# EAGLE library part XC7A50T (library ICs)
Artix-7 Field Programmable Gate Array (FPGA) IC 250 2764800 52160 484-BBGA
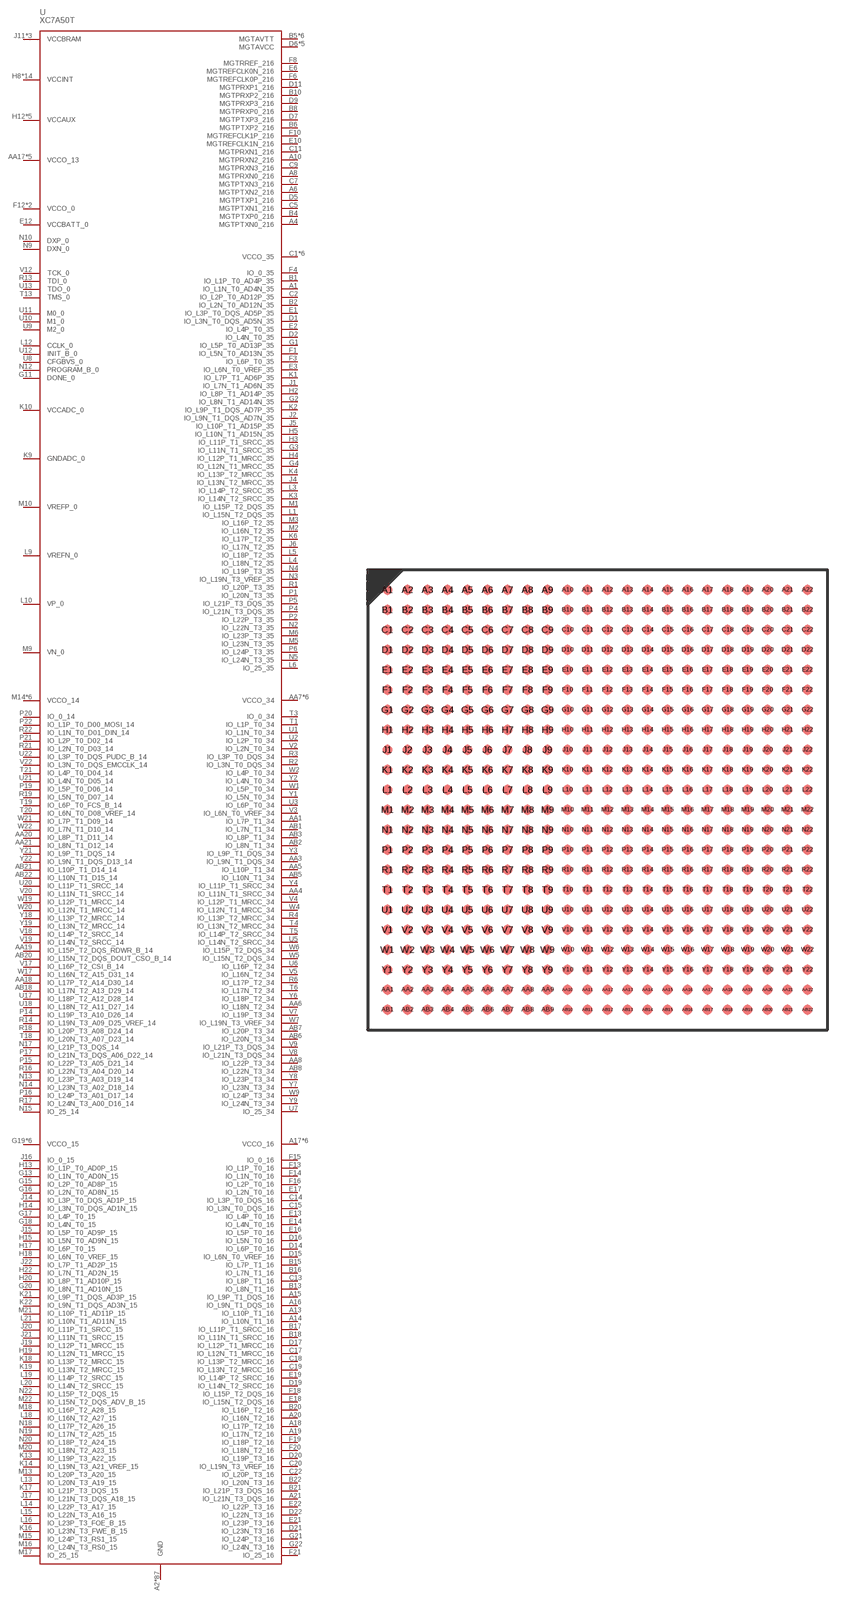
[diagram p262: symbol with the pads of FBGA484; footprint FBGA484]

Designator prefix U

## XC7A50T-2FGG484C (DIGIKEY: 122-2082-ND; HEIGHT: 2.5; PRICE_PER: 62; VALUE: Artix 7 50T -2)  [FBGA484]
A1  IO_L1N_T0_AD4N_35
A2  GND
A3  GND
A4  MGTPTXN0_216
A5  GND
A6  MGTPTXN2_216
A7  GND
A8  MGTPRXN0_216
A9  GND
A10  MGTPRXN2_216
A11  GND
A12  GND
A13  IO_L10P_T1_16
A14  IO_L10N_T1_16
A15  IO_L9P_T1_DQS_16
A16  IO_L9N_T1_DQS_16
A17  VCCO_16
A18  IO_L17P_T2_16
A19  IO_L17N_T2_16
A20  IO_L16N_T2_16
A21  IO_L21N_T3_DQS_16
A22  GND
AA1  IO_L7P_T1_34
AA2  GND
AA3  IO_L9N_T1_DQS_34
AA4  IO_L11N_T1_SRCC_34
AA5  IO_L10P_T1_34
AA6  IO_L18N_T2_34
AA7  VCCO_34
AA8  IO_L22P_T3_34
AA12  GND
AA17  VCCO_13
AA18  IO_L17P_T2_A14_D30_14
AA19  IO_L15P_T2_DQS_RDWR_B_14
AA20  IO_L8P_T1_D11_14
AA21  IO_L8N_T1_D12_14
AA22  GND
AB1  IO_L7N_T1_34
AB2  IO_L8N_T1_34
AB3  IO_L8P_T1_34
AB4  VCCO_34
AB5  IO_L10N_T1_34
AB6  IO_L20N_T3_34
AB7  IO_L20P_T3_34
AB8  IO_L22N_T3_34
AB9  GND
AB14  VCCO_13
AB18  IO_L17N_T2_A13_D29_14
AB19  GND
AB20  IO_L15N_T2_DQS_DOUT_CSO_B_14
AB21  IO_L10P_T1_D14_14
AB22  IO_L10N_T1_D15_14
B1  IO_L1P_T0_AD4P_35
B2  IO_L2N_T0_AD12N_35
B3  GND
B4  MGTPTXP0_216
B5  MGTAVTT
B6  MGTPTXP2_216
B7  MGTAVTT
B8  MGTPRXP0_216
B9  MGTAVTT
B10  MGTPRXP2_216
B11  MGTAVTT
B12  GND
B13  IO_L8N_T1_16
B14  VCCO_16
B15  IO_L7P_T1_16
B16  IO_L7N_T1_16
B17  IO_L11P_T1_SRCC_16
B18  IO_L11N_T1_SRCC_16
B19  GND
B20  IO_L16P_T2_16
B21  IO_L21P_T3_DQS_16
B22  IO_L20N_T3_16
C1  VCCO_35
C2  IO_L2P_T0_AD12P_35
C3  GND
C4  MGTAVTT
C5  MGTPTXN1_216
C6  GND
C7  MGTPTXN3_216
C8  MGTAVTT
C9  MGTPRXN3_216
C10  GND
C11  MGTPRXN1_216
C12  GND
C13  IO_L8P_T1_16
C14  IO_L3P_T0_DQS_16
C15  IO_L3N_T0_DQS_16
C16  GND
C17  IO_L12N_T1_MRCC_16
C18  IO_L13P_T2_MRCC_16
C19  IO_L13N_T2_MRCC_16
C20  IO_L19N_T3_VREF_16
C21  VCCO_16
C22  IO_L20P_T3_16
D1  IO_L3N_T0_DQS_AD5N_35
D2  IO_L4N_T0_35
D3  GND
D4  GND
D5  MGTPTXP1_216
D6  MGTAVCC
D7  MGTPTXP3_216
D8  GND
D9  MGTPRXP3_216
D10  MGTAVCC
D11  MGTPRXP1_216
D12  GND
D13  GND
D14  IO_L6P_T0_16
D15  IO_L6N_T0_VREF_16
D16  IO_L5N_T0_16
D17  IO_L12P_T1_MRCC_16
D18  VCCO_16
D19  IO_L14N_T2_SRCC_16
D20  IO_L19P_T3_16
D21  IO_L23N_T3_16
D22  IO_L22N_T3_16
E1  IO_L3P_T0_DQS_AD5P_35
E2  IO_L4P_T0_35
E3  IO_L6N_T0_VREF_35
E4  GND
E5  GND
E6  MGTREFCLK0N_216
E7  GND
E8  MGTAVCC
E9  GND
E10  MGTREFCLK1N_216
E11  GND
E12  VCCBATT_0
E13  IO_L4P_T0_16
E14  IO_L4N_T0_16
E15  VCCO_16
E16  IO_L5P_T0_16
E17  IO_L2N_T0_16
E18  IO_L15N_T2_DQS_16
E19  IO_L14P_T2_SRCC_16
E20  GND
E21  IO_L23P_T3_16
E22  IO_L22P_T3_16
F1  IO_L5N_T0_AD13N_35
F2  VCCO_35
F3  IO_L6P_T0_35
F4  IO_0_35
F5  GND
F6  MGTREFCLK0P_216
F7  MGTAVCC
F8  MGTRREF_216
F9  MGTAVCC
F10  MGTREFCLK1P_216
F11  GND
F12  VCCO_0
F13  IO_L1P_T0_16
F14  IO_L1N_T0_16
F15  IO_0_16
F16  IO_L2P_T0_16
F17  GND
F18  IO_L15P_T2_DQS_16
F19  IO_L18P_T2_16
F20  IO_L18N_T2_16
F21  IO_25_16
F22  VCCO_16
G1  IO_L5P_T0_AD13P_35
G2  IO_L8N_T1_AD14N_35
G3  IO_L11N_T1_SRCC_35
G4  IO_L12N_T1_MRCC_35
G5  GND
G6  GND
G7  GND
G8  GND
G9  GND
G10  GND
G11  DONE_0
G12  GND
G13  IO_L1N_T0_AD0N_15
G14  GND
G15  IO_L2P_T0_AD8P_15
G16  IO_L2N_T0_AD8N_15
G17  IO_L4P_T0_15
G18  IO_L4N_T0_15
G19  VCCO_15
G20  IO_L8N_T1_AD10N_15
G21  IO_L24P_T3_16
G22  IO_L24N_T3_16
H1  GND
H2  IO_L8P_T1_AD14P_35
H3  IO_L11P_T1_SRCC_35
H4  IO_L12P_T1_MRCC_35
H5  IO_L10N_T1_AD15N_35
H6  VCCO_35
H7  GND
H8  VCCINT
H9  GND
H10  VCCINT
H11  GND
H12  VCCAUX
H13  IO_L1P_T0_AD0P_15
H14  IO_L3N_T0_DQS_AD1N_15
H15  IO_L5N_T0_AD9N_15
H16  VCCO_15
H17  IO_L6P_T0_15
H18  IO_L6N_T0_VREF_15
H19  IO_L12N_T1_MRCC_15
H20  IO_L8P_T1_AD10P_15
H21  GND
H22  IO_L7N_T1_AD2N_15
J1  IO_L7N_T1_AD6N_35
J2  IO_L9N_T1_DQS_AD7N_35
J3  VCCO_35
J4  IO_L13N_T2_MRCC_35
J5  IO_L10P_T1_AD15P_35
J6  IO_L17N_T2_35
J7  VCCINT
J8  GND
J9  VCCINT
J10  GND
J11  VCCBRAM
J12  GND
J13  VCCO_15
J14  IO_L3P_T0_DQS_AD1P_15
J15  IO_L5P_T0_AD9P_15
J16  IO_0_15
J17  IO_L21N_T3_DQS_A18_15
J18  GND
J19  IO_L12P_T1_MRCC_15
J20  IO_L11P_T1_SRCC_15
J21  IO_L11N_T1_SRCC_15
J22  IO_L7P_T1_AD2P_15
K1  IO_L7P_T1_AD6P_35
K2  IO_L9P_T1_DQS_AD7P_35
K3  IO_L14N_T2_SRCC_35
K4  IO_L13P_T2_MRCC_35
K5  GND
K6  IO_L17P_T2_35
K7  GND
K8  VCCINT
K9  GNDADC_0
K10  VCCADC_0
K11  GND
K12  VCCAUX
K13  IO_L19P_T3_A22_15
K14  IO_L19N_T3_A21_VREF_15
K15  GND
K16  IO_L23N_T3_FWE_B_15
K17  IO_L21P_T3_DQS_15
K18  IO_L13P_T2_MRCC_15
K19  IO_L13N_T2_MRCC_15
K20  VCCO_15
K21  IO_L9P_T1_DQS_AD3P_15
K22  IO_L9N_T1_DQS_AD3N_15
L1  IO_L15N_T2_DQS_35
L2  GND
L3  IO_L14P_T2_SRCC_35
L4  IO_L18N_T2_35
L5  IO_L18P_T2_35
L6  IO_25_35
L7  VCCINT
L8  GND
L9  VREFN_0
L10  VP_0
L11  VCCBRAM
L12  CCLK_0
L13  IO_L20N_T3_A19_15
L14  IO_L22P_T3_A17_15
L15  IO_L22N_T3_A16_15
L16  IO_L23P_T3_FOE_B_15
L17  VCCO_15
L18  IO_L16N_T2_A27_15
L19  IO_L14P_T2_SRCC_15
L20  IO_L14N_T2_SRCC_15
L21  IO_L10N_T1_AD11N_15
L22  GND
M1  IO_L15P_T2_DQS_35
M2  IO_L16N_T2_35
M3  IO_L16P_T2_35
M4  VCCO_35
M5  IO_L23N_T3_35
M6  IO_L23P_T3_35
M7  GND
M8  VCCINT
M9  VN_0
M10  VREFP_0
M11  GND
M12  VCCAUX
M13  IO_L20P_T3_A20_15
M14  VCCO_14
M15  IO_L24P_T3_RS1_15
M16  IO_L24N_T3_RS0_15
M17  IO_25_15
M18  IO_L16P_T2_A28_15
M19  GND
M20  IO_L18N_T2_A23_15
M21  IO_L10P_T1_AD11P_15
M22  IO_L15N_T2_DQS_ADV_B_15
N1  VCCO_35
N2  IO_L22N_T3_35
N3  IO_L19N_T3_VREF_35
N4  IO_L19P_T3_35
N5  IO_L24N_T3_35
N6  GND
N7  VCCINT
N8  GND
N9  DXN_0
N10  DXP_0
N11  VCCBRAM
N12  PROGRAM_B_0
N13  IO_L23P_T3_A03_D19_14
N14  IO_L23N_T3_A02_D18_14
N15  IO_25_14
N16  GND
N17  IO_L21P_T3_DQS_14
N18  IO_L17P_T2_A26_15
N19  IO_L17N_T2_A25_15
N20  IO_L18P_T2_A24_15
N21  VCCO_15
N22  IO_L15P_T2_DQS_15
P1  IO_L20N_T3_35
P2  IO_L22P_T3_35
P3  GND
P4  IO_L21N_T3_DQS_35
P5  IO_L21P_T3_DQS_35
P6  IO_L24P_T3_35
P7  GND
P8  VCCINT
P9  GND
P10  VCCINT
P11  GND
P12  VCCAUX
P13  GND
P14  IO_L19P_T3_A10_D26_14
P15  IO_L22P_T3_A05_D21_14
P16  IO_L24P_T3_A01_D17_14
P17  IO_L21N_T3_DQS_A06_D22_14
P18  VCCO_14
P19  IO_L5P_T0_D06_14
P20  IO_0_14
P21  IO_L2P_T0_D02_14
P22  IO_L1P_T0_D00_MOSI_14
R1  IO_L20P_T3_35
R2  IO_L3N_T0_DQS_34
R3  IO_L3P_T0_DQS_34
R4  IO_L13P_T2_MRCC_34
R5  VCCO_34
R6  IO_L17P_T2_34
R7  VCCINT
R8  GND
R9  VCCINT
R10  GND
R11  VCCAUX
R12  GND
R13  TDI_0
R14  IO_L19N_T3_A09_D25_VREF_14
R15  VCCO_14
R16  IO_L22N_T3_A04_D20_14
R17  IO_L24N_T3_A00_D16_14
R18  IO_L20P_T3_A08_D24_14
R19  IO_L5N_T0_D07_14
R20  GND
R21  IO_L2N_T0_D03_14
R22  IO_L1N_T0_D01_DIN_14
T1  IO_L1P_T0_34
T2  VCCO_34
T3  IO_0_34
T4  IO_L13N_T2_MRCC_34
T5  IO_L14P_T2_SRCC_34
T6  IO_L17N_T2_34
T7  GND
T8  VCCINT
T9  GND
T10  VCCINT
T11  GND
T12  VCCO_0
T13  TMS_0
T17  GND
T18  IO_L20N_T3_A07_D23_14
T19  IO_L6P_T0_FCS_B_14
T20  IO_L6N_T0_D08_VREF_14
T21  IO_L4P_T0_D04_14
T22  VCCO_14
U1  IO_L1N_T0_34
U2  IO_L2P_T0_34
U3  IO_L6P_T0_34
U4  GND
U5  IO_L14N_T2_SRCC_34
U6  IO_L16P_T2_34
U7  IO_25_34
U8  CFGBVS_0
U9  M2_0
U10  M1_0
U11  M0_0
U12  INIT_B_0
U13  TDO_0
U14  GND
U17  IO_L18P_T2_A12_D28_14
U18  IO_L18N_T2_A11_D27_14
U19  VCCO_14
U20  IO_L11P_T1_SRCC_14
U21  IO_L4N_T0_D05_14
U22  IO_L3P_T0_DQS_PUDC_B_14
V1  GND
V2  IO_L2N_T0_34
V3  IO_L6N_T0_VREF_34
V4  IO_L12P_T1_MRCC_34
V5  IO_L16N_T2_34
V6  VCCO_34
V7  IO_L19P_T3_34
V8  IO_L21N_T3_DQS_34
V9  IO_L21P_T3_DQS_34
V11  GND
V12  TCK_0
V16  VCCO_13
V17  IO_L16P_T2_CSI_B_14
V18  IO_L14P_T2_SRCC_14
V19  IO_L14N_T2_SRCC_14
V20  IO_L11N_T1_SRCC_14
V21  GND
V22  IO_L3N_T0_DQS_EMCCLK_14
W1  IO_L5P_T0_34
W2  IO_L4P_T0_34
W3  VCCO_34
W4  IO_L12N_T1_MRCC_34
W5  IO_L15N_T2_DQS_34
W6  IO_L15P_T2_DQS_34
W7  IO_L19N_T3_VREF_34
W8  GND
W9  IO_L24P_T3_34
W13  VCCO_13
W17  IO_L16N_T2_A15_D31_14
W18  GND
W19  IO_L12P_T1_MRCC_14
W20  IO_L12N_T1_MRCC_14
W21  IO_L7P_T1_D09_14
W22  IO_L7N_T1_D10_14
Y1  IO_L5N_T0_34
Y2  IO_L4N_T0_34
Y3  IO_L9P_T1_DQS_34
Y4  IO_L11P_T1_SRCC_34
Y5  GND
Y6  IO_L18P_T2_34
Y7  IO_L23N_T3_34
Y8  IO_L23P_T3_34
Y9  IO_L24N_T3_34
Y10  VCCO_13
Y15  GND
Y18  IO_L13P_T2_MRCC_14
Y19  IO_L13N_T2_MRCC_14
Y20  VCCO_14
Y21  IO_L9P_T1_DQS_14
Y22  IO_L9N_T1_DQS_D13_14

## Footprint FBGA484 (pad centres in mm)
smd 0.5 x 0.5: A1 -10.5,10.5; A2 -9.5,10.5; A3 -8.5,10.5; A4 -7.5,10.5; A5 -6.5,10.5; A6 -5.5,10.5; A7 -4.5,10.5; A8 -3.5,10.5; A9 -2.5,10.5; A10 -1.5,10.5; A11 -0.5,10.5; A12 0.5,10.5; A13 1.5,10.5; A14 2.5,10.5; A15 3.5,10.5; A16 4.5,10.5; A17 5.5,10.5; A18 6.5,10.5; A19 7.5,10.5; A20 8.5,10.5; A21 9.5,10.5; A22 10.5,10.5; AA1 -10.5,-9.5; AA2 -9.5,-9.5; AA3 -8.5,-9.5; AA4 -7.5,-9.5; AA5 -6.5,-9.5; AA6 -5.5,-9.5; AA7 -4.5,-9.5; AA8 -3.5,-9.5; AA9 -2.5,-9.5; AA10 -1.5,-9.5; AA11 -0.5,-9.5; AA12 0.5,-9.5; AA13 1.5,-9.5; AA14 2.5,-9.5; AA15 3.5,-9.5; AA16 4.5,-9.5; AA17 5.5,-9.5; AA18 6.5,-9.5; AA19 7.5,-9.5; AA20 8.5,-9.5; AA21 9.5,-9.5; AA22 10.5,-9.5; AB1 -10.5,-10.5; AB2 -9.5,-10.5; AB3 -8.5,-10.5; AB4 -7.5,-10.5; AB5 -6.5,-10.5; AB6 -5.5,-10.5; AB7 -4.5,-10.5; AB8 -3.5,-10.5; AB9 -2.5,-10.5; AB10 -1.5,-10.5; AB11 -0.5,-10.5; AB12 0.5,-10.5; AB13 1.5,-10.5; AB14 2.5,-10.5; AB15 3.5,-10.5; AB16 4.5,-10.5; AB17 5.5,-10.5; AB18 6.5,-10.5; AB19 7.5,-10.5; AB20 8.5,-10.5; AB21 9.5,-10.5; AB22 10.5,-10.5; B1 -10.5,9.5; B2 -9.5,9.5; B3 -8.5,9.5; B4 -7.5,9.5; B5 -6.5,9.5; B6 -5.5,9.5; B7 -4.5,9.5; B8 -3.5,9.5; B9 -2.5,9.5; B10 -1.5,9.5; B11 -0.5,9.5; B12 0.5,9.5; B13 1.5,9.5; B14 2.5,9.5; B15 3.5,9.5; B16 4.5,9.5; B17 5.5,9.5; B18 6.5,9.5; B19 7.5,9.5; B20 8.5,9.5; B21 9.5,9.5; B22 10.5,9.5; C1 -10.5,8.5; C2 -9.5,8.5; C3 -8.5,8.5; C4 -7.5,8.5; C5 -6.5,8.5; C6 -5.5,8.5; C7 -4.5,8.5; C8 -3.5,8.5; C9 -2.5,8.5; C10 -1.5,8.5; C11 -0.5,8.5; C12 0.5,8.5; C13 1.5,8.5; C14 2.5,8.5; C15 3.5,8.5; C16 4.5,8.5; C17 5.5,8.5; C18 6.5,8.5; C19 7.5,8.5; C20 8.5,8.5; C21 9.5,8.5; C22 10.5,8.5; D1 -10.5,7.5; D2 -9.5,7.5; D3 -8.5,7.5; D4 -7.5,7.5; D5 -6.5,7.5; D6 -5.5,7.5; D7 -4.5,7.5; D8 -3.5,7.5; D9 -2.5,7.5; D10 -1.5,7.5; D11 -0.5,7.5; D12 0.5,7.5; D13 1.5,7.5; D14 2.5,7.5; D15 3.5,7.5; D16 4.5,7.5; D17 5.5,7.5; D18 6.5,7.5; D19 7.5,7.5; D20 8.5,7.5; D21 9.5,7.5; D22 10.5,7.5; E1 -10.5,6.5; E2 -9.5,6.5; E3 -8.5,6.5; E4 -7.5,6.5; E5 -6.5,6.5; E6 -5.5,6.5; E7 -4.5,6.5; E8 -3.5,6.5; E9 -2.5,6.5; E10 -1.5,6.5; E11 -0.5,6.5; E12 0.5,6.5; E13 1.5,6.5; E14 2.5,6.5; E15 3.5,6.5; E16 4.5,6.5; E17 5.5,6.5; E18 6.5,6.5; E19 7.5,6.5; E20 8.5,6.5; E21 9.5,6.5; E22 10.5,6.5; F1 -10.5,5.5; F2 -9.5,5.5; F3 -8.5,5.5; F4 -7.5,5.5; F5 -6.5,5.5; F6 -5.5,5.5; F7 -4.5,5.5; F8 -3.5,5.5; F9 -2.5,5.5; F10 -1.5,5.5; F11 -0.5,5.5; F12 0.5,5.5; F13 1.5,5.5; F14 2.5,5.5; F15 3.5,5.5; F16 4.5,5.5; F17 5.5,5.5; F18 6.5,5.5; F19 7.5,5.5; F20 8.5,5.5; F21 9.5,5.5; F22 10.5,5.5; G1 -10.5,4.5; G2 -9.5,4.5; G3 -8.5,4.5; G4 -7.5,4.5; G5 -6.5,4.5; G6 -5.5,4.5; G7 -4.5,4.5; G8 -3.5,4.5; G9 -2.5,4.5; G10 -1.5,4.5; G11 -0.5,4.5; G12 0.5,4.5; G13 1.5,4.5; G14 2.5,4.5; G15 3.5,4.5; G16 4.5,4.5; G17 5.5,4.5; G18 6.5,4.5; G19 7.5,4.5; G20 8.5,4.5; G21 9.5,4.5; G22 10.5,4.5; H1 -10.5,3.5; H2 -9.5,3.5; H3 -8.5,3.5; H4 -7.5,3.5; H5 -6.5,3.5; H6 -5.5,3.5; H7 -4.5,3.5; H8 -3.5,3.5; H9 -2.5,3.5; H10 -1.5,3.5; H11 -0.5,3.5; H12 0.5,3.5; H13 1.5,3.5; H14 2.5,3.5; H15 3.5,3.5; H16 4.5,3.5; H17 5.5,3.5; H18 6.5,3.5; H19 7.5,3.5; H20 8.5,3.5; H21 9.5,3.5; H22 10.5,3.5; J1 -10.5,2.5; J2 -9.5,2.5; J3 -8.5,2.5; J4 -7.5,2.5; J5 -6.5,2.5; J6 -5.5,2.5; J7 -4.5,2.5; J8 -3.5,2.5; J9 -2.5,2.5; J10 -1.5,2.5; J11 -0.5,2.5; J12 0.5,2.5; J13 1.5,2.5; J14 2.5,2.5; J15 3.5,2.5; J16 4.5,2.5; J17 5.5,2.5; J18 6.5,2.5; J19 7.5,2.5; J20 8.5,2.5; J21 9.5,2.5; J22 10.5,2.5; K1 -10.5,1.5; K2 -9.5,1.5; K3 -8.5,1.5; K4 -7.5,1.5; K5 -6.5,1.5; K6 -5.5,1.5; K7 -4.5,1.5; K8 -3.5,1.5; K9 -2.5,1.5; K10 -1.5,1.5; K11 -0.5,1.5; K12 0.5,1.5; K13 1.5,1.5; K14 2.5,1.5; K15 3.5,1.5; K16 4.5,1.5; K17 5.5,1.5; K18 6.5,1.5; K19 7.5,1.5; K20 8.5,1.5; K21 9.5,1.5; K22 10.5,1.5; L1 -10.5,0.5; L2 -9.5,0.5; L3 -8.5,0.5; L4 -7.5,0.5; L5 -6.5,0.5; L6 -5.5,0.5; L7 -4.5,0.5; L8 -3.5,0.5; L9 -2.5,0.5; L10 -1.5,0.5; L11 -0.5,0.5; L12 0.5,0.5; L13 1.5,0.5; L14 2.5,0.5; L15 3.5,0.5; L16 4.5,0.5; L17 5.5,0.5; L18 6.5,0.5; L19 7.5,0.5; L20 8.5,0.5; L21 9.5,0.5; L22 10.5,0.5; M1 -10.5,-0.5; M2 -9.5,-0.5; M3 -8.5,-0.5; M4 -7.5,-0.5; M5 -6.5,-0.5; M6 -5.5,-0.5; M7 -4.5,-0.5; M8 -3.5,-0.5; M9 -2.5,-0.5; M10 -1.5,-0.5; M11 -0.5,-0.5; M12 0.5,-0.5; M13 1.5,-0.5; M14 2.5,-0.5; M15 3.5,-0.5; M16 4.5,-0.5; M17 5.5,-0.5; M18 6.5,-0.5; M19 7.5,-0.5; M20 8.5,-0.5; M21 9.5,-0.5; M22 10.5,-0.5; N1 -10.5,-1.5; N2 -9.5,-1.5; N3 -8.5,-1.5; N4 -7.5,-1.5; N5 -6.5,-1.5; N6 -5.5,-1.5; N7 -4.5,-1.5; N8 -3.5,-1.5; N9 -2.5,-1.5; N10 -1.5,-1.5; N11 -0.5,-1.5; N12 0.5,-1.5; N13 1.5,-1.5; N14 2.5,-1.5; N15 3.5,-1.5; N16 4.5,-1.5; N17 5.5,-1.5; N18 6.5,-1.5; N19 7.5,-1.5; N20 8.5,-1.5; N21 9.5,-1.5; N22 10.5,-1.5; P1 -10.5,-2.5; P2 -9.5,-2.5; P3 -8.5,-2.5; P4 -7.5,-2.5; P5 -6.5,-2.5; P6 -5.5,-2.5; P7 -4.5,-2.5; P8 -3.5,-2.5; P9 -2.5,-2.5; P10 -1.5,-2.5; P11 -0.5,-2.5; P12 0.5,-2.5; P13 1.5,-2.5; P14 2.5,-2.5; P15 3.5,-2.5; P16 4.5,-2.5; P17 5.5,-2.5; P18 6.5,-2.5; P19 7.5,-2.5; P20 8.5,-2.5; P21 9.5,-2.5; P22 10.5,-2.5; R1 -10.5,-3.5; R2 -9.5,-3.5; R3 -8.5,-3.5; R4 -7.5,-3.5; R5 -6.5,-3.5; R6 -5.5,-3.5; R7 -4.5,-3.5; R8 -3.5,-3.5; R9 -2.5,-3.5; R10 -1.5,-3.5; R11 -0.5,-3.5; R12 0.5,-3.5; R13 1.5,-3.5; R14 2.5,-3.5; R15 3.5,-3.5; R16 4.5,-3.5; R17 5.5,-3.5; R18 6.5,-3.5; R19 7.5,-3.5; R20 8.5,-3.5; R21 9.5,-3.5; R22 10.5,-3.5; T1 -10.5,-4.5; T2 -9.5,-4.5; T3 -8.5,-4.5; T4 -7.5,-4.5; T5 -6.5,-4.5; T6 -5.5,-4.5; T7 -4.5,-4.5; T8 -3.5,-4.5; T9 -2.5,-4.5; T10 -1.5,-4.5; T11 -0.5,-4.5; T12 0.5,-4.5; T13 1.5,-4.5; T14 2.5,-4.5; T15 3.5,-4.5; T16 4.5,-4.5; T17 5.5,-4.5; T18 6.5,-4.5; T19 7.5,-4.5; T20 8.5,-4.5; T21 9.5,-4.5; T22 10.5,-4.5; U1 -10.5,-5.5; U2 -9.5,-5.5; U3 -8.5,-5.5; U4 -7.5,-5.5; U5 -6.5,-5.5; U6 -5.5,-5.5; U7 -4.5,-5.5; U8 -3.5,-5.5; U9 -2.5,-5.5; U10 -1.5,-5.5; U11 -0.5,-5.5; U12 0.5,-5.5; U13 1.5,-5.5; U14 2.5,-5.5; U15 3.5,-5.5; U16 4.5,-5.5; U17 5.5,-5.5; U18 6.5,-5.5; U19 7.5,-5.5; U20 8.5,-5.5; U21 9.5,-5.5; U22 10.5,-5.5; V1 -10.5,-6.5; V2 -9.5,-6.5; V3 -8.5,-6.5; V4 -7.5,-6.5; V5 -6.5,-6.5; V6 -5.5,-6.5; V7 -4.5,-6.5; V8 -3.5,-6.5; V9 -2.5,-6.5; V10 -1.5,-6.5; V11 -0.5,-6.5; V12 0.5,-6.5; V13 1.5,-6.5; V14 2.5,-6.5; V15 3.5,-6.5; V16 4.5,-6.5; V17 5.5,-6.5; V18 6.5,-6.5; V19 7.5,-6.5; V20 8.5,-6.5; V21 9.5,-6.5; V22 10.5,-6.5; W1 -10.5,-7.5; W2 -9.5,-7.5; W3 -8.5,-7.5; W4 -7.5,-7.5; W5 -6.5,-7.5; W6 -5.5,-7.5; W7 -4.5,-7.5; W8 -3.5,-7.5; W9 -2.5,-7.5; W10 -1.5,-7.5; W11 -0.5,-7.5; W12 0.5,-7.5; W13 1.5,-7.5; W14 2.5,-7.5; W15 3.5,-7.5; W16 4.5,-7.5; W17 5.5,-7.5; W18 6.5,-7.5; W19 7.5,-7.5; W20 8.5,-7.5; W21 9.5,-7.5; W22 10.5,-7.5; Y1 -10.5,-8.5; Y2 -9.5,-8.5; Y3 -8.5,-8.5; Y4 -7.5,-8.5; Y5 -6.5,-8.5; Y6 -5.5,-8.5; Y7 -4.5,-8.5; Y8 -3.5,-8.5; Y9 -2.5,-8.5; Y10 -1.5,-8.5; Y11 -0.5,-8.5; Y12 0.5,-8.5; Y13 1.5,-8.5; Y14 2.5,-8.5; Y15 3.5,-8.5; Y16 4.5,-8.5; Y17 5.5,-8.5; Y18 6.5,-8.5; Y19 7.5,-8.5; Y20 8.5,-8.5; Y21 9.5,-8.5; Y22 10.5,-8.5